# Altium schematic symbol library SCH - ARM CORTEX - STM STM32F103R(8-B)Hx.SchLib: 1 symbol
Pins are listed as number, name and electrical type; pins without a type are passive.

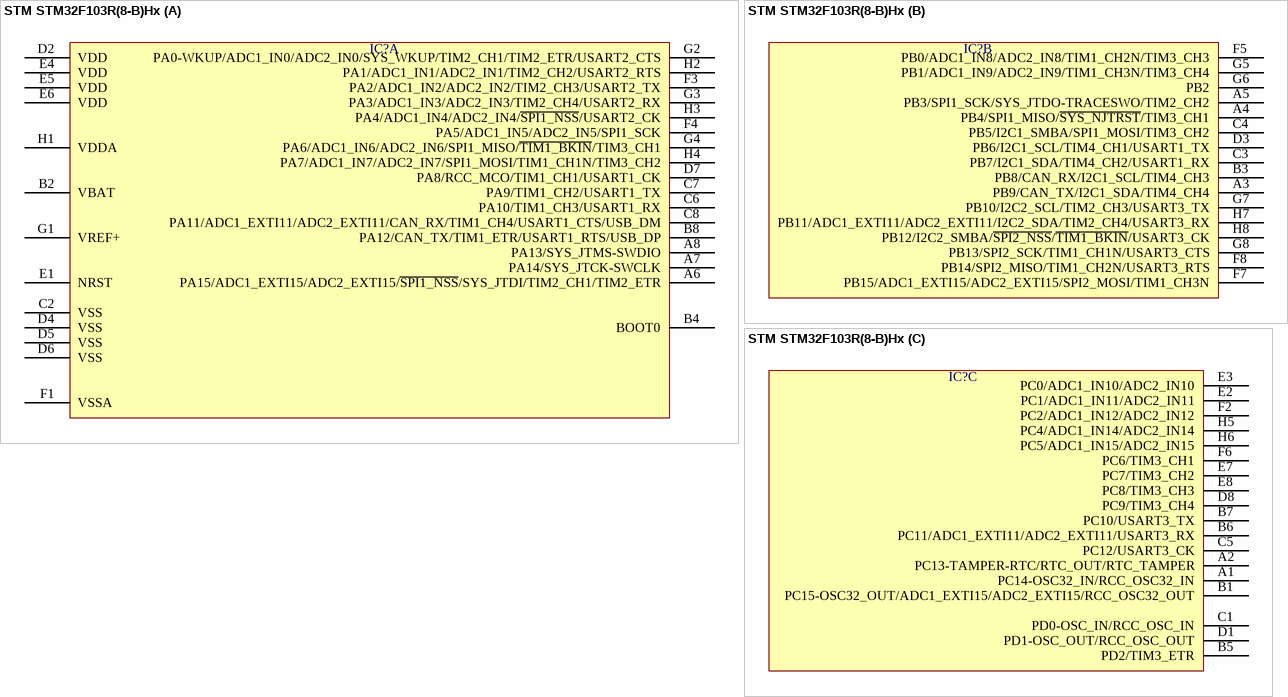
[diagram p0: symbol STM STM32F103R(8-B)Hx]

## STM STM32F103R(8-B)Hx
designator IC?  (value not drawn)
part A pins: A6 PA15/ADC1_EXTI15/ADC2_EXTI15/~{SPI1_NSS}/SYS_JTDI/TIM2_CH1/TIM2_ETR, A7 PA14/SYS_JTCK-SWCLK, A8 PA13/SYS_JTMS-SWDIO, B2 VBAT, B4 BOOT0, B8 PA12/CAN_TX/TIM1_ETR/USART1_RTS/USB_DP, C2 VSS, C6 PA10/TIM1_CH3/USART1_RX, C7 PA9/TIM1_CH2/USART1_TX, C8 PA11/ADC1_EXTI11/ADC2_EXTI11/CAN_RX/TIM1_CH4/USART1_CTS/USB_DM, D2 VDD, D4 VSS, D5 VSS, D6 VSS, D7 PA8/RCC_MCO/TIM1_CH1/USART1_CK, E1 NRST, E4 VDD, E5 VDD, E6 VDD, F1 VSSA, F3 PA2/ADC1_IN2/ADC2_IN2/TIM2_CH3/USART2_TX, F4 PA5/ADC1_IN5/ADC2_IN5/SPI1_SCK, G1 VREF+, G2 PA0-WKUP/ADC1_IN0/ADC2_IN0/SYS_WKUP/TIM2_CH1/TIM2_ETR/USART2_CTS, G3 PA3/ADC1_IN3/ADC2_IN3/TIM2_CH4/USART2_RX, G4 PA6/ADC1_IN6/ADC2_IN6/SPI1_MISO/~{TIM1_BKIN}/TIM3_CH1, H1 VDDA, H2 PA1/ADC1_IN1/ADC2_IN1/TIM2_CH2/USART2_RTS, H3 PA4/ADC1_IN4/ADC2_IN4/~{SPI1_NSS}/USART2_CK, H4 PA7/ADC1_IN7/ADC2_IN7/SPI1_MOSI/TIM1_CH1N/TIM3_CH2
part B pins: A3 PB9/CAN_TX/I2C1_SDA/TIM4_CH4, A4 PB4/SPI1_MISO/~{SYS_NJTRST}/TIM3_CH1, A5 PB3/SPI1_SCK/SYS_JTDO-TRACESWO/TIM2_CH2, B3 PB8/CAN_RX/I2C1_SCL/TIM4_CH3, C3 PB7/I2C1_SDA/TIM4_CH2/USART1_RX, C4 PB5/I2C1_SMBA/SPI1_MOSI/TIM3_CH2, D3 PB6/I2C1_SCL/TIM4_CH1/USART1_TX, F5 PB0/ADC1_IN8/ADC2_IN8/TIM1_CH2N/TIM3_CH3, F7 PB15/ADC1_EXTI15/ADC2_EXTI15/SPI2_MOSI/TIM1_CH3N, F8 PB14/SPI2_MISO/TIM1_CH2N/USART3_RTS, G5 PB1/ADC1_IN9/ADC2_IN9/TIM1_CH3N/TIM3_CH4, G6 PB2, G7 PB10/I2C2_SCL/TIM2_CH3/USART3_TX, G8 PB13/SPI2_SCK/TIM1_CH1N/USART3_CTS, H7 PB11/ADC1_EXTI11/ADC2_EXTI11/I2C2_SDA/TIM2_CH4/USART3_RX, H8 PB12/I2C2_SMBA/~{SPI2_NSS}/~{TIM1_BKIN}/USART3_CK
part C pins: A1 PC14-OSC32_IN/RCC_OSC32_IN, A2 PC13-TAMPER-RTC/RTC_OUT/RTC_TAMPER, B1 PC15-OSC32_OUT/ADC1_EXTI15/ADC2_EXTI15/RCC_OSC32_OUT, B5 PD2/TIM3_ETR, B6 PC11/ADC1_EXTI11/ADC2_EXTI11/USART3_RX, B7 PC10/USART3_TX, C1 PD0-OSC_IN/RCC_OSC_IN, C5 PC12/USART3_CK, D1 PD1-OSC_OUT/RCC_OSC_OUT, D8 PC9/TIM3_CH4, E2 PC1/ADC1_IN11/ADC2_IN11, E3 PC0/ADC1_IN10/ADC2_IN10, E7 PC7/TIM3_CH2, E8 PC8/TIM3_CH3, F2 PC2/ADC1_IN12/ADC2_IN12, F6 PC6/TIM3_CH1, H5 PC4/ADC1_IN14/ADC2_IN14, H6 PC5/ADC1_IN15/ADC2_IN15